# Altium integrated library rf-solutions.IntLib: 6 symbols
Pins are listed as number, name and electrical type; pins without a type are passive.

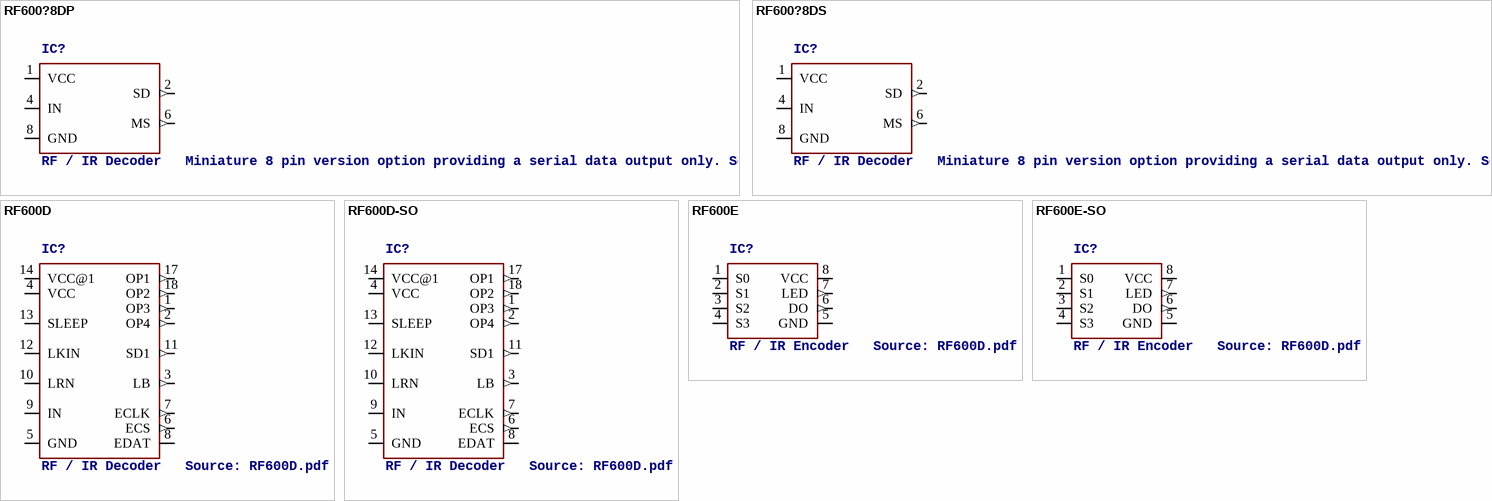
[diagram p0: symbols RF600?8DP to RF600E-SO]

## RF600?8DP
designator IC?, comment RF / IR Decoder   Miniature 8 pin version option providing a serial data output only. Source: RF600D.pdf
OC_FARNELL: unknown; OC_NEWARK: unknown
footprint DIL08
pins: 1 VCC (power), 2 SD (out), 4 IN, 6 MS (out), 8 GND (power)

## RF600?8DS
designator IC?, comment RF / IR Decoder   Miniature 8 pin version option providing a serial data output only. Source: RF600D.pdf
OC_FARNELL: unknown; OC_NEWARK: unknown
footprint SO-08
pins: 1 VCC (power), 2 SD (out), 4 IN, 6 MS (out), 8 GND (power)

## RF600D
designator IC?, comment RF / IR Decoder   Source: RF600D.pdf
MPN: RF600D; OC_FARNELL: 1200973; OC_NEWARK: 01M8597
footprint DIL18
pins: 1 OP3 (out), 2 OP4 (out), 3 LB (out), 4 VCC, 5 GND (power), 6 ECS (out), 7 ECLK (out), 8 EDAT, 9 IN, 10 LRN, 11 SD1 (out), 12 LKIN, 13 SLEEP, 14 VCC@1 (power), 17 OP1 (out), 18 OP2 (out)

## RF600D-SO
designator IC?, comment RF / IR Decoder   Source: RF600D.pdf
MPN: RF600D-SO; MF: FARNELL; OC_FARNELL: 8733813; OC_NEWARK: 18K6846
footprint SO-18W
pins: 1 OP3 (out), 2 OP4 (out), 3 LB (out), 4 VCC, 5 GND (power), 6 ECS (out), 7 ECLK (out), 8 EDAT, 9 IN, 10 LRN, 11 SD1 (out), 12 LKIN, 13 SLEEP, 14 VCC@1 (power), 17 OP1 (out), 18 OP2 (out)

## RF600E
designator IC?, comment RF / IR Encoder   Source: RF600D.pdf
MPN: RF600E; OC_FARNELL: 1200972; OC_NEWARK: 01M8598
footprint DIL08
pins: 1 S0, 2 S1, 3 S2, 4 S3, 5 GND (power), 6 DO (out), 7 LED (out), 8 VCC (power)

## RF600E-SO
designator IC?, comment RF / IR Encoder   Source: RF600D.pdf
MPN: RF600E-SO; MF: FARNELL; OC_FARNELL: 8733805; OC_NEWARK: 18K6847
footprint SO-08
pins: 1 S0, 2 S1, 3 S2, 4 S3, 5 GND (power), 6 DO (out), 7 LED (out), 8 VCC (power)